# EAGLE library part LPC11A1XFBD48 (library nxp_60_1_1)
32-bit ARM Cortex-M0 microcontroller; up to 32 kB flash, 8 kB SRAM, 4 kB EEPROM; configurable analog/mixed-signal The LPC11Axx are an ARM Cortex-M0 based, low-cost 32-bit MCU family, designed for 8/16-bit microcontroller applications, offering performance, low power, simple instruction set and memory addressing together with reduced code size compared to existing 8/16-bit architectures. The LPC11Axx operate at CPU frequencies of up to 50 MHz. Analog/mixed-signal subsystems can be configured by software from interconnected digital and analog peripherals. The digital peripherals on the LPC11Axx include up to 32 kB of flash memory, up to 4 kB of EEPROM data memory, up to 8 kB of SRAM data memory, a Fast-mode Plus I 2 C-bus interface, a RS-485/EIA-485 USART, two SSP controllers, four general purpose counter/timers, and up to 42 general purpose I/O pins. Analog peripherals include a 10-bit ADC, a 10-bit DAC, an analog comparator, a temperature sensor, an internal voltage reference, and UnderVoltage LockOut (UVLO) protection. AAL Eindhoven MK
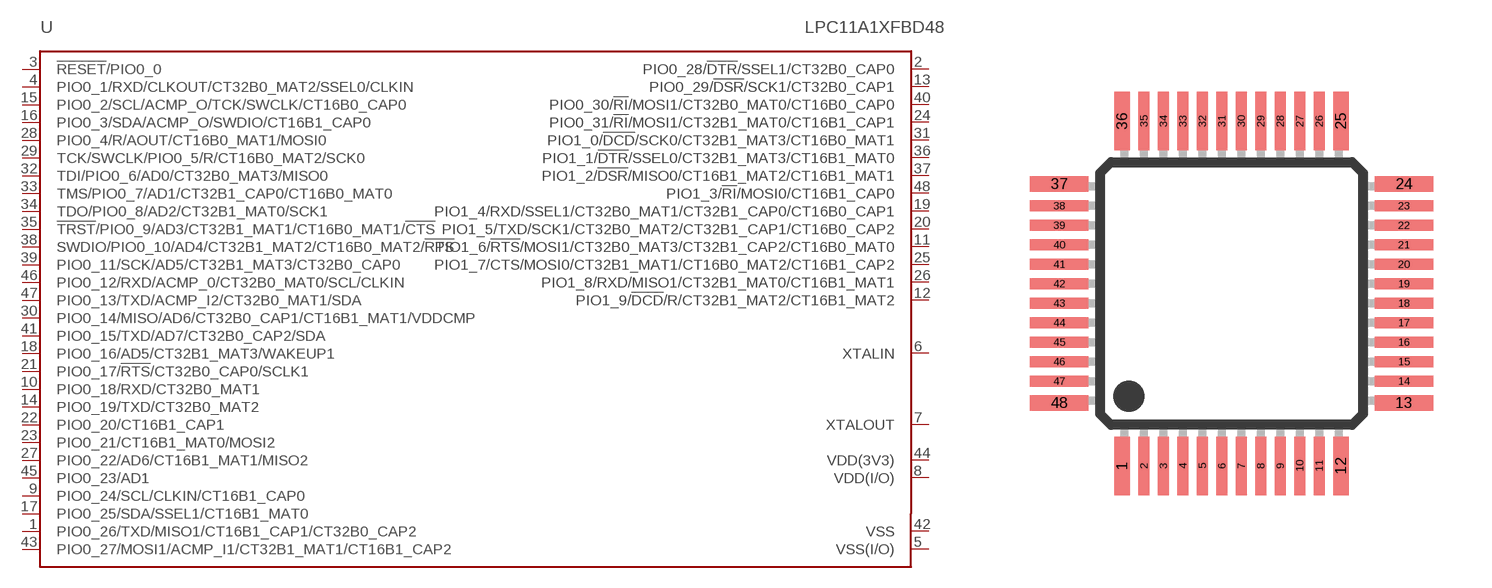
[diagram p123: symbol with the pads of SOT313-2; footprint SOT313-2]

Designator prefix U

## LPC11A1XFBD48  [SOT313-2]
1  PIO0_26/TXD/MISO1/CT16B1_CAP1/CT32B0_CAP2
2  PIO0_28/!DTR!/SSEL1/CT32B0_CAP0
3  !RESET!/PIO0_0
4  PIO0_1/RXD/CLKOUT/CT32B0_MAT2/SSEL0/CLKIN
5  VSS(I/O)  pwr
6  XTALIN  pas
7  XTALOUT  pas
8  VDD(I/O)  pwr
9  PIO0_24/SCL/CLKIN/CT16B1_CAP0
10  PIO0_18/RXD/CT32B0_MAT1
11  PIO1_6/!RTS!/MOSI1/CT32B0_MAT3/CT32B1_CAP2/CT16B0_MAT0
12  PIO1_9/!DCD!/R/CT32B1_MAT2/CT16B1_MAT2
13  PIO0_29/!DSR!/SCK1/CT32B0_CAP1
14  PIO0_19/TXD/CT32B0_MAT2
15  PIO0_2/SCL/ACMP_O/TCK/SWCLK/CT16B0_CAP0
16  PIO0_3/SDA/ACMP_O/SWDIO/CT16B1_CAP0
17  PIO0_25/SDA/SSEL1/CT16B1_MAT0
18  PIO0_16/AD5/CT32B1_MAT3/WAKEUP1
19  PIO1_4/RXD/SSEL1/CT32B0_MAT1/CT32B1_CAP0/CT16B0_CAP1
20  PIO1_5/TXD/SCK1/CT32B0_MAT2/CT32B1_CAP1/CT16B0_CAP2
21  PIO0_17/!RTS!/CT32B0_CAP0/SCLK1
22  PIO0_20/CT16B1_CAP1
23  PIO0_21/CT16B1_MAT0/MOSI2
24  PIO0_31/!RI!/MOSI1/CT32B1_MAT0/CT16B1_CAP1
25  PIO1_7/CTS/MOSI0/CT32B1_MAT1/CT16B0_MAT2/CT16B1_CAP2
26  PIO1_8/RXD/MISO1/CT32B1_MAT0/CT16B1_MAT1
27  PIO0_22/AD6/CT16B1_MAT1/MISO2
28  PIO0_4/R/AOUT/CT16B0_MAT1/MOSI0
29  TCK/SWCLK/PIO0_5/R/CT16B0_MAT2/SCK0
30  PIO0_14/MISO/AD6/CT32B0_CAP1/CT16B1_MAT1/VDDCMP
31  PIO1_0/!DCD!/SCK0/CT32B1_MAT3/CT16B0_MAT1
32  TDI/PIO0_6/AD0/CT32B0_MAT3/MISO0
33  TMS/PIO0_7/AD1/CT32B1_CAP0/CT16B0_MAT0
34  TDO/PIO0_8/AD2/CT32B1_MAT0/SCK1
35  !TRST!/PIO0_9/AD3/CT32B1_MAT1/CT16B0_MAT1/!CTS!
36  PIO1_1/!DTR!/SSEL0/CT32B1_MAT3/CT16B1_MAT0
37  PIO1_2/!DSR!/MISO0/CT16B1_MAT2/CT16B1_MAT1
38  SWDIO/PIO0_10/AD4/CT32B1_MAT2/CT16B0_MAT2/!RTS!
39  PIO0_11/SCK/AD5/CT32B1_MAT3/CT32B0_CAP0
40  PIO0_30/!RI!/MOSI1/CT32B0_MAT0/CT16B0_CAP0
41  PIO0_15/TXD/AD7/CT32B0_CAP2/SDA
42  VSS  pwr
43  PIO0_27/MOSI1/ACMP_I1/CT32B1_MAT1/CT16B1_CAP2
44  VDD(3V3)  pwr
45  PIO0_23/AD1
46  PIO0_12/RXD/ACMP_0/CT32B0_MAT0/SCL/CLKIN
47  PIO0_13/TXD/ACMP_I2/CT32B0_MAT1/SDA
48  PIO1_3/!RI!/MOSI0/CT16B1_CAP0

## Footprint SOT313-2 (pad centres in mm)
SOT313-2 LQFP48: plastic low profile quad flat package; 48 leads; body 7 x 7 x 1.4 mm JEDEC: MS-026 IEC: 136E05 Footprint according to NXP SOT313-2 specification, however the cornerpins are 0.4mm in stead of 0.5mm. Probably an error in the specification.
smd 0.4 x 1.5: 1 -2.81,-4.425; 12 2.81,-4.425; 25 2.81,4.425; 36 -2.81,4.425
smd 0.28 x 1.5: 2 -2.25,-4.425; 3 -1.75,-4.425; 4 -1.25,-4.425; 5 -0.75,-4.425; 6 -0.25,-4.425; 7 0.25,-4.425; 8 0.75,-4.425; 9 1.25,-4.425; 10 1.75,-4.425; 11 2.25,-4.425; 26 2.25,4.425; 27 1.75,4.425; 28 1.25,4.425; 29 0.75,4.425; 30 0.25,4.425; 31 -0.25,4.425; 32 -0.75,4.425; 33 -1.25,4.425; 34 -1.75,4.425; 35 -2.25,4.425
smd 1.5 x 0.4: 13 4.425,-2.81; 24 4.425,2.81; 37 -4.425,2.81; 48 -4.425,-2.81
smd 1.5 x 0.28: 14 4.425,-2.25; 15 4.425,-1.75; 16 4.425,-1.25; 17 4.425,-0.75; 18 4.425,-0.25; 19 4.425,0.25; 20 4.425,0.75; 21 4.425,1.25; 22 4.425,1.75; 23 4.425,2.25; 38 -4.425,2.25; 39 -4.425,1.75; 40 -4.425,1.25; 41 -4.425,0.75; 42 -4.425,0.25; 43 -4.425,-0.25; 44 -4.425,-0.75; 45 -4.425,-1.25; 46 -4.425,-1.75; 47 -4.425,-2.25